# EAGLE library part M06? (library LoganSmith-Connectors)
1x6 Headers
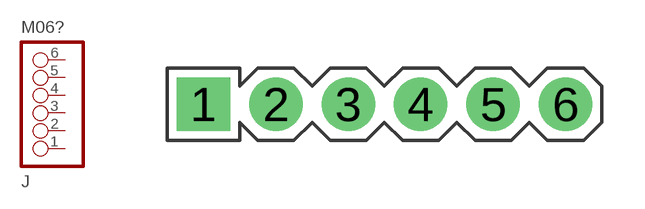
[diagram p0: symbol with the pads of 1X06_SQ1; footprint 1X06_SQ1]

Designator prefix J

## M06SQ1  [1X06_SQ1]
1  1
2  2
3  3
4  4
5  5
6  6

## Footprint 1X06_SQ1 (pad centres in mm)
0.1" spaced header with silkscreen and square pin #1
drill 1.016 pad 1.88 square: 1 0,0
drill 1.016 pad 1.88: 2 2.54,0; 3 5.08,0; 4 7.62,0; 5 10.16,0; 6 12.7,0